# Altium integrated library ON Semi Schottky Diodes & Schottky Rectifiers.IntLib: 755 symbols (part 14 of 17)
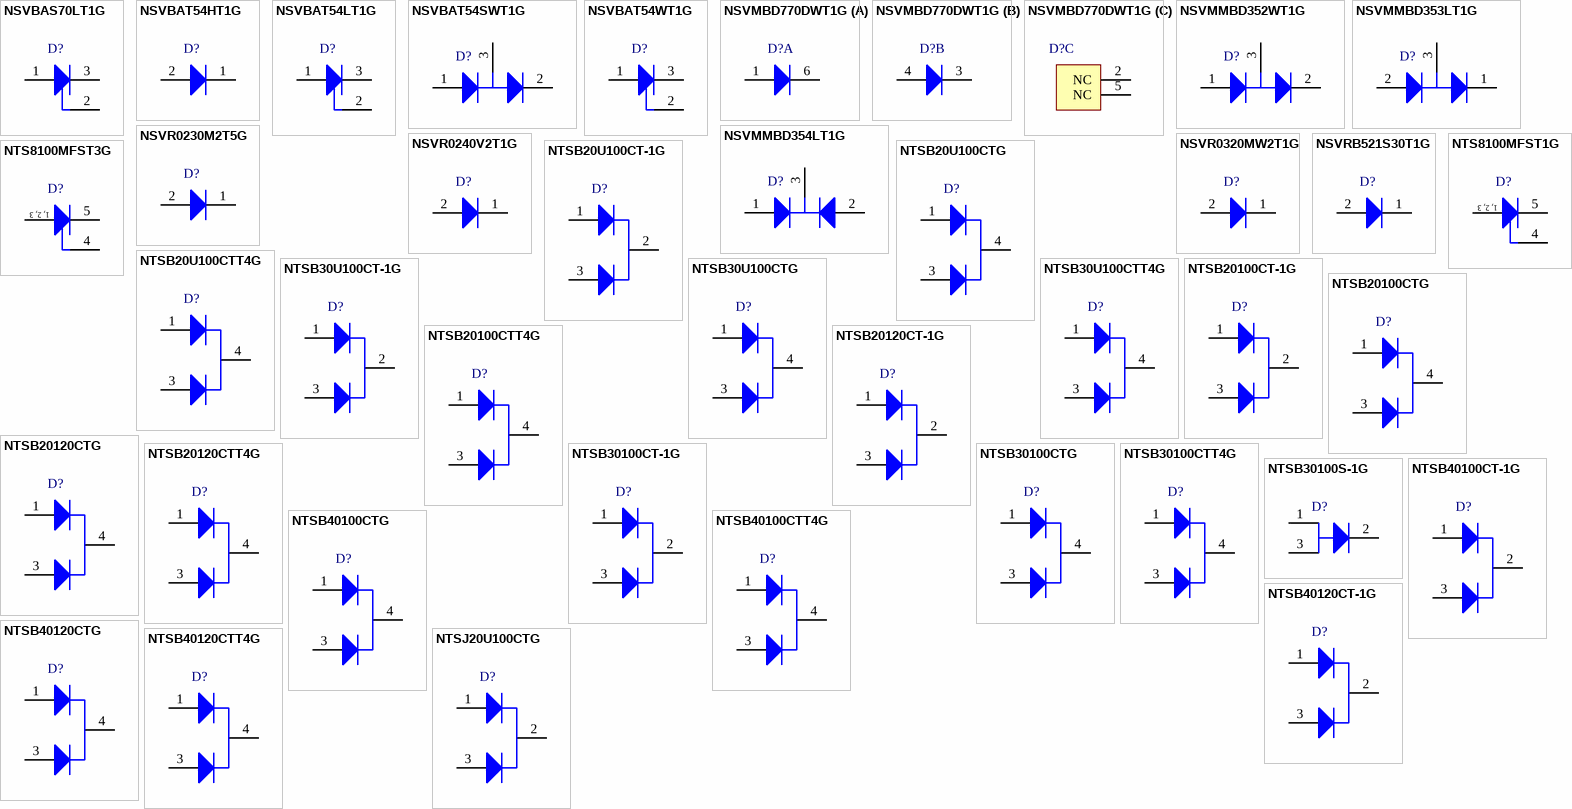
[diagram p32: symbols NSVBAS70LT1G to NTSJ20U100CTG]

## NTSB30U100CTG
designator D?
Very Low Forward Voltage Trench-Based Schottky Rectifier, Exceptionally Low VF=0.42 V at IF=5 A, 3-Pin D2PAK, Pb-Free, Tube; Manufacturer: On Semiconductor; PartNumber: NTSB30U100CTG; Note: 0; Configuration: Common Cathode; IFSM Max (A): 160; DatasheetVersion: Rev. 7; PackageVersion: Rev. K, 09/2008; PackageReference: D2PAK-3-418B-04; PackageDescription: 3-Pin Flange Mount, Body 9.145 x 9.97 mm, Pitch 2.54 mm; Packing: Tube; RoHS: TRUE; Mounting Technology: Surface Mount; ComponentLink1Description: Manufacturer URL; ComponentLink1URL: http://www.onsemi.com/; ComponentLink2Description: Datasheet; ComponentLink2URL: http://www.onsemi.cn/pub_link/Collateral/NTST30U100CT-D.PDF; ComponentLink3Description: Package Specification; ComponentLink3URL: http://www.onsemi.com/pub_link/Collateral/418B-04.PDF
footprint ONSC-D2PAK-3-418B-04_V (DPAK, 3-Leads, Body 9.97x9.145mm, Pitch 2.54mm)
pins: 1 A1, 3 A2, 4 K

## NTSB30U100CTT4G
designator D?
Very Low Forward Voltage Trench-Based Schottky Rectifier, Exceptionally Low VF=0.42 V at IF=5 A, 3-Pin D2PAK, Pb-Free, Tape and Reel; Manufacturer: On Semiconductor; PartNumber: NTSB30U100CTT4G; Note: 0; Configuration: Common Cathode; IFSM Max (A): 160; DatasheetVersion: Rev. 7; PackageVersion: Rev. K, 09/2008; PackageReference: D2PAK-3-418B-04; PackageDescription: 3-Pin Flange Mount, Body 9.145 x 9.97 mm, Pitch 2.54 mm; Packing: Tape and Reel; RoHS: TRUE; Mounting Technology: Surface Mount; ComponentLink1Description: Manufacturer URL; ComponentLink1URL: http://www.onsemi.com/; ComponentLink2Description: Datasheet; ComponentLink2URL: http://www.onsemi.cn/pub_link/Collateral/NTST30U100CT-D.PDF; ComponentLink3Description: Package Specification; ComponentLink3URL: http://www.onsemi.com/pub_link/Collateral/418B-04.PDF
footprint ONSC-D2PAK-3-418B-04_V (DPAK, 3-Leads, Body 9.97x9.145mm, Pitch 2.54mm)
pins: 1 A1, 3 A2, 4 K

## NTSB20100CT-1G
designator D?
Very Low Forward Voltage Trench-Based Schottky Rectifier, Exceptionally Low VF=0.5 V at IF=5 A, 3-Pin I2PAK, Pb-Free, Tube; Manufacturer: On Semiconductor; PartNumber: NTSB20100CT-1G; Configuration: Common Cathode; IFSM Max (A): 150; DatasheetVersion: Rev. 5; PackageVersion: Rev. D, 10/2007; PackageReference: I2PAK-3-418D-01; PackageDescription: 3-Pin Flange Mount, Vertical Straight Lead, Body 9.98 x 4.38 mm, Pitch 2.54 mm; Supplier 1: Digi-Key; Supplier Part Number 1: NTSB20100CT-1G-ND; Supplier 2: Newark; Supplier Part Number 2: 65T1512; Supplier 3: Mouser; Supplier Part Number 3: 863-NTSB20100CT-1G; Packing: Tube; RoHS: TRUE; Mounting Technology: Through Hole; ComponentLink1Description: Manufacturer URL; ComponentLink1URL: http://www.onsemi.com/; ComponentLink2Description: Datasheet; ComponentLink2URL: http://www.onsemi.cn/pub_link/Collateral/NTST20100CT-D.PDF; ComponentLink3Description: Package Specification; ComponentLink3URL: http://www.onsemi.com/pub_link/Collateral/418D.PDF
footprint ONSC-I2PAK-3-418D-01 (FM, 3-Leads, Body 10.35x4.7mm, Pitch 2.54mm)
pins: 1 A1, 2 K, 3 A2

## NTSB20100CTG
designator D?
Very Low Forward Voltage Trench-Based Schottky Rectifier, Exceptionally Low VF=0.5 V at IF=5 A, 3-Pin D2PAK, Pb-Free, Tube; Manufacturer: On Semiconductor; PartNumber: NTSB20100CTG; Configuration: Common Cathode; IFSM Max (A): 150; DatasheetVersion: Rev. 5; PackageVersion: Rev. K, 09/2008; PackageReference: D2PAK-3-418B-04; PackageDescription: 3-Pin Flange Mount, Body 9.145 x 9.97 mm, Pitch 2.54 mm; Supplier 1: Newark; Supplier Part Number 1: 28X8076; Packing: Tube; RoHS: TRUE; Mounting Technology: Surface Mount; ComponentLink1Description: Manufacturer URL; ComponentLink1URL: http://www.onsemi.com/; ComponentLink2Description: Datasheet; ComponentLink2URL: http://www.onsemi.cn/pub_link/Collateral/NTST20100CT-D.PDF; ComponentLink3Description: Package Specification; ComponentLink3URL: http://www.onsemi.com/pub_link/Collateral/418B-04.PDF
footprint ONSC-D2PAK-3-418B-04_V (DPAK, 3-Leads, Body 9.97x9.145mm, Pitch 2.54mm)
pins: 1 A1, 3 A2, 4 K

## NTSB20100CTT4G
designator D?
Very Low Forward Voltage Trench-Based Schottky Rectifier, Exceptionally Low VF=0.5 V at IF=5 A, 3-Pin D2PAK, Pb-Free, Tape and Reel; Manufacturer: On Semiconductor; PartNumber: NTSB20100CTT4G; Configuration: Common Cathode; IFSM Max (A): 150; DatasheetVersion: Rev. 5; PackageVersion: Rev. K, 09/2008; PackageReference: D2PAK-3-418B-04; PackageDescription: 3-Pin Flange Mount, Body 9.145 x 9.97 mm, Pitch 2.54 mm; Supplier 1: Newark; Supplier Part Number 1: 28X8077; Packing: Tape and Reel; RoHS: TRUE; Mounting Technology: Surface Mount; ComponentLink1Description: Manufacturer URL; ComponentLink1URL: http://www.onsemi.com/; ComponentLink2Description: Datasheet; ComponentLink2URL: http://www.onsemi.cn/pub_link/Collateral/NTST20100CT-D.PDF; ComponentLink3Description: Package Specification; ComponentLink3URL: http://www.onsemi.com/pub_link/Collateral/418B-04.PDF
footprint ONSC-D2PAK-3-418B-04_V (DPAK, 3-Leads, Body 9.97x9.145mm, Pitch 2.54mm)
pins: 1 A1, 3 A2, 4 K

## NTSB20120CT-1G
designator D?
Very Low Forward Voltage Trench-Based Schottky Rectifier, Exceptionally Low VF=0.54 V at IF=5 A, 3-Pin I2PAK, Pb-Free, Tube; Manufacturer: On Semiconductor; PartNumber: NTSB20120CT-1G; Configuration: Common Cathode; IFSM Max (A): 120; DatasheetVersion: Rev. 4; PackageVersion: Rev. D, 10/2007; PackageReference: I2PAK-3-418D-01; PackageDescription: 3-Pin Flange Mount, Vertical Straight Lead, Body 9.98 x 4.38 mm, Pitch 2.54 mm; Supplier 1: Digi-Key; Supplier Part Number 1: NTSB20120CT-1GOS-ND; Supplier 2: Farnell; Supplier Part Number 2: 2114679; Supplier 3: Newark; Supplier Part Number 3: 92T2183; Supplier 4: Mouser; Supplier Part Number 4: 863-NTSB20120CT-1G; Packing: Tube; RoHS: TRUE; Mounting Technology: Through Hole; ComponentLink1Description: Manufacturer URL; ComponentLink1URL: http://www.onsemi.com/; ComponentLink2Description: Datasheet; ComponentLink2URL: http://www.onsemi.cn/pub_link/Collateral/NTST20120CT-D.PDF; ComponentLink3Description: Package Specification; ComponentLink3URL: http://www.onsemi.com/pub_link/Collateral/418D.PDF
footprint ONSC-I2PAK-3-418D-01 (FM, 3-Leads, Body 10.35x4.7mm, Pitch 2.54mm)
pins: 1 A1, 2 K, 3 A2

## NTSB20120CTG
designator D?
Very Low Forward Voltage Trench-Based Schottky Rectifier, Exceptionally Low VF=0.54 V at IF=5 A, 3-Pin D2PAK, Pb-Free, Tube; Manufacturer: On Semiconductor; PartNumber: NTSB20120CTG; Note: 0; Configuration: Common Cathode; IFSM Max (A): 120; DatasheetVersion: Rev. 4; PackageVersion: Rev. K, 09/2008; PackageReference: D2PAK-3-418B-04; PackageDescription: 3-Pin Flange Mount, Body 9.145 x 9.97 mm, Pitch 2.54 mm; Packing: Tube; RoHS: TRUE; Mounting Technology: Surface Mount; ComponentLink1Description: Manufacturer URL; ComponentLink1URL: http://www.onsemi.com/; ComponentLink2Description: Datasheet; ComponentLink2URL: http://www.onsemi.cn/pub_link/Collateral/NTST20120CT-D.PDF; ComponentLink3Description: Package Specification; ComponentLink3URL: http://www.onsemi.com/pub_link/Collateral/418B-04.PDF
footprint ONSC-D2PAK-3-418B-04_V (DPAK, 3-Leads, Body 9.97x9.145mm, Pitch 2.54mm)
pins: 1 A1, 3 A2, 4 K

## NTSB20120CTT4G
designator D?
Very Low Forward Voltage Trench-Based Schottky Rectifier, Exceptionally Low VF=0.54 V at IF=5 A, 3-Pin D2PAK, Pb-Free, Tape and Reel; Manufacturer: On Semiconductor; PartNumber: NTSB20120CTT4G; Configuration: Common Cathode; IFSM Max (A): 120; DatasheetVersion: Rev. 4; PackageVersion: Rev. K, 09/2008; PackageReference: D2PAK-3-418B-04; PackageDescription: 3-Pin Flange Mount, Body 9.145 x 9.97 mm, Pitch 2.54 mm; Supplier 1: Mouser; Supplier Part Number 1: 863-NTSB20120CTT4G; Packing: Tape and Reel; RoHS: TRUE; Mounting Technology: Surface Mount; ComponentLink1Description: Manufacturer URL; ComponentLink1URL: http://www.onsemi.com/; ComponentLink2Description: Datasheet; ComponentLink2URL: http://www.onsemi.cn/pub_link/Collateral/NTST20120CT-D.PDF; ComponentLink3Description: Package Specification; ComponentLink3URL: http://www.onsemi.com/pub_link/Collateral/418B-04.PDF
footprint ONSC-D2PAK-3-418B-04_V (DPAK, 3-Leads, Body 9.97x9.145mm, Pitch 2.54mm)
pins: 1 A1, 3 A2, 4 K

## NTSB30100CT-1G
designator D?
Very Low Forward Voltage Trench-Based Schottky Rectifier, Exceptionally Low VF=0.455 V at IF=5 A, 3-Pin I2PAK, Pb-Free, Tube; Manufacturer: On Semiconductor; PartNumber: NTSB30100CT-1G; Configuration: Common Cathode; IFSM Max (A): 160; DatasheetVersion: Rev. 5; PackageVersion: Rev. D, 10/2007; PackageReference: I2PAK-3-418D-01; PackageDescription: 3-Pin Flange Mount, Vertical Straight Lead, Body 9.98 x 4.38 mm, Pitch 2.54 mm; Supplier 1: Digi-Key; Supplier Part Number 1: NTSB30100CT-1G-ND; Supplier 2: Newark; Supplier Part Number 2: 65T1513; Supplier 3: Mouser; Supplier Part Number 3: 863-NTSB30100CT-1G; Packing: Tube; RoHS: TRUE; Mounting Technology: Through Hole; ComponentLink1Description: Manufacturer URL; ComponentLink1URL: http://www.onsemi.com/; ComponentLink2Description: Datasheet; ComponentLink2URL: http://www.onsemi.cn/pub_link/Collateral/NTST30100CT-D.PDF; ComponentLink3Description: Package Specification; ComponentLink3URL: http://www.onsemi.com/pub_link/Collateral/418D.PDF
footprint ONSC-I2PAK-3-418D-01 (FM, 3-Leads, Body 10.35x4.7mm, Pitch 2.54mm)
pins: 1 A1, 2 K, 3 A2

## NTSB30100CTG
designator D?
Very Low Forward Voltage Trench-Based Schottky Rectifier, Exceptionally Low VF=0.455 V at IF=5 A, 3-Pin D2PAK, Pb-Free, Tube; Manufacturer: On Semiconductor; PartNumber: NTSB30100CTG; Configuration: Common Cathode; IFSM Max (A): 160; DatasheetVersion: Rev. 5; PackageVersion: Rev. K, 09/2008; PackageReference: D2PAK-3-418B-04; PackageDescription: 3-Pin Flange Mount, Body 9.145 x 9.97 mm, Pitch 2.54 mm; Supplier 1: Digi-Key; Supplier Part Number 1: NTSB30100CTGOS-ND; Supplier 2: Farnell; Supplier Part Number 2: 2114678; Supplier 3: Newark; Supplier Part Number 3: 92T2185; Supplier 4: Mouser; Supplier Part Number 4: 863-NTSB30100CTG; Packing: Tube; RoHS: TRUE; Mounting Technology: Surface Mount; ComponentLink1Description: Manufacturer URL; ComponentLink1URL: http://www.onsemi.com/; ComponentLink2Description: Datasheet; ComponentLink2URL: http://www.onsemi.cn/pub_link/Collateral/NTST30100CT-D.PDF; ComponentLink3Description: Package Specification; ComponentLink3URL: http://www.onsemi.com/pub_link/Collateral/418B-04.PDF
footprint ONSC-D2PAK-3-418B-04_V (DPAK, 3-Leads, Body 9.97x9.145mm, Pitch 2.54mm)
pins: 1 A1, 3 A2, 4 K

## NTSB30100CTT4G
designator D?
Very Low Forward Voltage Trench-Based Schottky Rectifier, Exceptionally Low VF=0.455 V at IF=5 A, 3-Pin D2PAK, Pb-Free, Tape and Reel; Manufacturer: On Semiconductor; PartNumber: NTSB30100CTT4G; Configuration: Common Cathode; IFSM Max (A): 160; DatasheetVersion: Rev. 5; PackageVersion: Rev. K, 09/2008; PackageReference: D2PAK-3-418B-04; PackageDescription: 3-Pin Flange Mount, Body 9.145 x 9.97 mm, Pitch 2.54 mm; Supplier 1: Digi-Key; Supplier Part Number 1: NTSB30100CTT4GOSTR-ND; Supplier 2: Digi-Key; Supplier Part Number 2: NTSB30100CTT4GOSCT-ND; Supplier 3: Digi-Key; Supplier Part Number 3: NTSB30100CTT4GOSDKR-ND; Supplier 4: Farnell; Supplier Part Number 4: 2317405; Supplier 5: Newark; Supplier Part Number 5: 92T2186; Supplier 6: Mouser; Supplier Part Number 6: 863-NTSB30100CTT4G; Packing: Tape and Reel; RoHS: TRUE; Mounting Technology: Surface Mount; ComponentLink1Description: Manufacturer URL; ComponentLink1URL: http://www.onsemi.com/; ComponentLink2Description: Datasheet; ComponentLink2URL: http://www.onsemi.cn/pub_link/Collateral/NTST30100CT-D.PDF; ComponentLink3Description: Package Specification; ComponentLink3URL: http://www.onsemi.com/pub_link/Collateral/418B-04.PDF
footprint ONSC-D2PAK-3-418B-04_V (DPAK, 3-Leads, Body 9.97x9.145mm, Pitch 2.54mm)
pins: 1 A1, 3 A2, 4 K

## NTSB30100S-1G
designator D?
Very Low Forward Voltage Trench-Based Schottky Rectifier, Exceptionally Low VF=0.39 V at IF=5 A, 3-Pin I2PAK, Pb-Free, Tube; Manufacturer: On Semiconductor; PartNumber: NTSB30100S-1G; Configuration: Single; IFSM Max (A): 250; DatasheetVersion: Rev. 3; PackageVersion: Rev. D, 10/2007; PackageReference: I2PAK-3-418D-01; PackageDescription: 3-Pin Flange Mount, Vertical Straight Lead, Body 9.98 x 4.38 mm, Pitch 2.54 mm; Supplier 1: Digi-Key; Supplier Part Number 1: NTSB30100S-1G-ND; Supplier 2: Newark; Supplier Part Number 2: 24T3497; Supplier 3: Mouser; Supplier Part Number 3: 863-NTSB30100S-1G; Packing: Tube; RoHS: TRUE; Mounting Technology: Through Hole; ComponentLink1Description: Manufacturer URL; ComponentLink1URL: http://www.onsemi.com/; ComponentLink2Description: Datasheet; ComponentLink2URL: http://www.onsemi.cn/pub_link/Collateral/NTST30100S-D.PDF; ComponentLink3Description: Package Specification; ComponentLink3URL: http://www.onsemi.com/pub_link/Collateral/418D.PDF
footprint ONSC-I2PAK-3-418D-01 (FM, 3-Leads, Body 10.35x4.7mm, Pitch 2.54mm)
pins: 1 A, 2 K, 3 A

## NTSB40100CT-1G
designator D?
Very Low Forward Voltage Trench-Based Schottky Rectifier, Exceptionally Low VF=0.38 V at IF=5 A, 3-Pin I2PAK, Pb-Free, Tube; Manufacturer: On Semiconductor; PartNumber: NTSB40100CT-1G; Configuration: Dual Common Cathode; IFSM Max (A): 250; DatasheetVersion: Rev. 0; PackageVersion: Rev. D, 10/2007; PackageReference: I2PAK-3-418D-01; PackageDescription: 3-Pin Flange Mount, Vertical Straight Lead, Body 9.98 x 4.38 mm, Pitch 2.54 mm; Supplier 1: Newark; Supplier Part Number 1: 97W6392; Supplier 2: Mouser; Supplier Part Number 2: 863-NTSB40100CT-1G; Packing: Tube; RoHS: TRUE; Mounting Technology: Through Hole; ComponentLink1Description: Manufacturer URL; ComponentLink1URL: http://www.onsemi.com/; ComponentLink2Description: Datasheet; ComponentLink2URL: http://www.onsemi.cn/pub_link/Collateral/NTST40100CT-D.PDF; ComponentLink3Description: Package Specification; ComponentLink3URL: http://www.onsemi.com/pub_link/Collateral/418D.PDF
footprint ONSC-I2PAK-3-418D-01 (FM, 3-Leads, Body 10.35x4.7mm, Pitch 2.54mm)
pins: 1 A1, 2 K, 3 A2

## NTSB40100CTG
designator D?
Very Low Forward Voltage Trench-Based Schottky Rectifier, Exceptionally Low VF=0.38 V at IF=5 A, 3-Pin D2PAK, Pb-Free, Tube; Manufacturer: On Semiconductor; PartNumber: NTSB40100CTG; Configuration: Dual Common Cathode; IFSM Max (A): 250; DatasheetVersion: Rev. 0; PackageVersion: Rev. K, 09/2008; PackageReference: D2PAK-3-418B-04; PackageDescription: 3-Pin Flange Mount, Body 9.145 x 9.97 mm, Pitch 2.54 mm; Supplier 1: Newark; Supplier Part Number 1: 97W6393; Supplier 2: Mouser; Supplier Part Number 2: 863-NTSB40100CTG; Packing: Tube; RoHS: TRUE; Mounting Technology: Surface Mount; ComponentLink1Description: Manufacturer URL; ComponentLink1URL: http://www.onsemi.com/; ComponentLink2Description: Datasheet; ComponentLink2URL: http://www.onsemi.cn/pub_link/Collateral/NTST40100CT-D.PDF; ComponentLink3Description: Package Specification; ComponentLink3URL: http://www.onsemi.com/pub_link/Collateral/418B-04.PDF
footprint ONSC-D2PAK-3-418B-04_V (DPAK, 3-Leads, Body 9.97x9.145mm, Pitch 2.54mm)
pins: 1 A1, 3 A2, 4 K

## NTSB40100CTT4G
designator D?
Very Low Forward Voltage Trench-Based Schottky Rectifier, Exceptionally Low VF=0.38 V at IF=5 A, 3-Pin D2PAK, Pb-Free, Tape and Reel; Manufacturer: On Semiconductor; PartNumber: NTSB40100CTT4G; Configuration: Dual Common Cathode; IFSM Max (A): 250; DatasheetVersion: Rev. 0; PackageVersion: Rev. K, 09/2008; PackageReference: D2PAK-3-418B-04; PackageDescription: 3-Pin Flange Mount, Body 9.145 x 9.97 mm, Pitch 2.54 mm; Supplier 1: Newark; Supplier Part Number 1: 97W6394; Supplier 2: Mouser; Supplier Part Number 2: 863-NTSB40100CTT4G; Packing: Tape and Reel; RoHS: TRUE; Mounting Technology: Surface Mount; ComponentLink1Description: Manufacturer URL; ComponentLink1URL: http://www.onsemi.com/; ComponentLink2Description: Datasheet; ComponentLink2URL: http://www.onsemi.cn/pub_link/Collateral/NTST40100CT-D.PDF; ComponentLink3Description: Package Specification; ComponentLink3URL: http://www.onsemi.com/pub_link/Collateral/418B-04.PDF
footprint ONSC-D2PAK-3-418B-04_V (DPAK, 3-Leads, Body 9.97x9.145mm, Pitch 2.54mm)
pins: 1 A1, 3 A2, 4 K

## NTSB40120CT-1G
designator D?
Very Low Forward Voltage Trench-Based Schottky Rectifier, Exceptionally Low VF=0.43 V at IF=5 A, 3-Pin I2PAK, Pb-Free, Tube; Manufacturer: On Semiconductor; PartNumber: NTSB40120CT-1G; Configuration: Common Cathode; IFSM Max (A): 250; DatasheetVersion: Rev. 4; PackageVersion: Rev. D, 10/2007; PackageReference: I2PAK-3-418D-01; PackageDescription: 3-Pin Flange Mount, Vertical Straight Lead, Body 9.98 x 4.38 mm, Pitch 2.54 mm; Supplier 1: Digi-Key; Supplier Part Number 1: NTSB40120CT-1GOS-ND; Supplier 2: Farnell; Supplier Part Number 2: 2114681; Supplier 3: Newark; Supplier Part Number 3: 05W5650; Supplier 4: Newark; Supplier Part Number 4: 92T2190; Supplier 5: Mouser; Supplier Part Number 5: 863-NTSB40120CT-1G; Packing: Tube; RoHS: TRUE; Mounting Technology: Through Hole; ComponentLink1Description: Manufacturer URL; ComponentLink1URL: http://www.onsemi.com/; ComponentLink2Description: Datasheet; ComponentLink2URL: http://www.onsemi.cn/pub_link/Collateral/NTST40120CT-D.PDF; ComponentLink3Description: Package Specification; ComponentLink3URL: http://www.onsemi.com/pub_link/Collateral/418D.PDF
footprint ONSC-I2PAK-3-418D-01 (FM, 3-Leads, Body 10.35x4.7mm, Pitch 2.54mm)
pins: 1 A1, 2 K, 3 A2

## NTSB40120CTG
designator D?
Very Low Forward Voltage Trench-Based Schottky Rectifier, Exceptionally Low VF=0.43 V at IF=5 A, 3-Pin D2PAK, Pb-Free, Tube; Manufacturer: On Semiconductor; PartNumber: NTSB40120CTG; Note: 0; Configuration: Common Cathode; IFSM Max (A): 250; DatasheetVersion: Rev. 4; PackageVersion: Rev. K, 09/2008; PackageReference: D2PAK-3-418B-04; PackageDescription: 3-Pin Flange Mount, Body 9.145 x 9.97 mm, Pitch 2.54 mm; Packing: Tube; RoHS: TRUE; Mounting Technology: Surface Mount; ComponentLink1Description: Manufacturer URL; ComponentLink1URL: http://www.onsemi.com/; ComponentLink2Description: Datasheet; ComponentLink2URL: http://www.onsemi.cn/pub_link/Collateral/NTST40120CT-D.PDF; ComponentLink3Description: Package Specification; ComponentLink3URL: http://www.onsemi.com/pub_link/Collateral/418B-04.PDF
footprint ONSC-D2PAK-3-418B-04_V (DPAK, 3-Leads, Body 9.97x9.145mm, Pitch 2.54mm)
pins: 1 A1, 3 A2, 4 K

## NTSB40120CTT4G
designator D?
Very Low Forward Voltage Trench-Based Schottky Rectifier, Exceptionally Low VF=0.43 V at IF=5 A, 3-Pin D2PAK, Pb-Free, Tape and Reel; Manufacturer: On Semiconductor; PartNumber: NTSB40120CTT4G; Note: 0; Configuration: Common Cathode; IFSM Max (A): 250; DatasheetVersion: Rev. 4; PackageVersion: Rev. K, 09/2008; PackageReference: D2PAK-3-418B-04; PackageDescription: 3-Pin Flange Mount, Body 9.145 x 9.97 mm, Pitch 2.54 mm; Packing: Tape and Reel; RoHS: TRUE; Mounting Technology: Surface Mount; ComponentLink1Description: Manufacturer URL; ComponentLink1URL: http://www.onsemi.com/; ComponentLink2Description: Datasheet; ComponentLink2URL: http://www.onsemi.cn/pub_link/Collateral/NTST40120CT-D.PDF; ComponentLink3Description: Package Specification; ComponentLink3URL: http://www.onsemi.com/pub_link/Collateral/418B-04.PDF
footprint ONSC-D2PAK-3-418B-04_V (DPAK, 3-Leads, Body 9.97x9.145mm, Pitch 2.54mm)
pins: 1 A1, 3 A2, 4 K

## NTSJ20U100CTG
designator D?
Very Low Forward Voltage Trench-Based Schottky Rectifier, Exceptionally Low VF=0.5 V at IF=5 A, 3-Pin TO-220, Pb-Free, Tube; Manufacturer: On Semiconductor; PartNumber: NTSJ20U100CTG; Configuration: Common Cathode; IFSM Max (A): 150; DatasheetVersion: Rev. 5; PackageVersion: Rev. B, 09/2011; PackageReference: TO-220-3-221AH_B; PackageDescription: 3-Pin Flange Mount, Vertical Straight Lead, Body 10 x 4.5 mm, Pitch 2.54 mm; Supplier 1: Digi-Key; Supplier Part Number 1: NTSJ20U100CTGOS-ND; Supplier 2: Farnell; Supplier Part Number 2: 2114695; Supplier 3: Newark; Supplier Part Number 3: 05W5651; Supplier 4: Mouser; Supplier Part Number 4: 863-NTSJ20U100CTG; Packing: Tube; RoHS: TRUE; Mounting Technology: Through Hole; ComponentLink1Description: Manufacturer URL; ComponentLink1URL: http://www.onsemi.com/; ComponentLink2Description: Datasheet; ComponentLink2URL: http://www.onsemi.cn/pub_link/Collateral/NTST20U100CT-D.PDF; ComponentLink3Description: Package Specification; ComponentLink3URL: http://www.onsemi.cn/pub_link/Collateral/NTSJ2080CT-D.PDF
footprint ONSC-TO-220-3-221AH_B (FM, 3-Leads, Body 10.3x4.7mm, Pitch 2.54 mm)
pins: 1 A1, 2 K, 3 A2

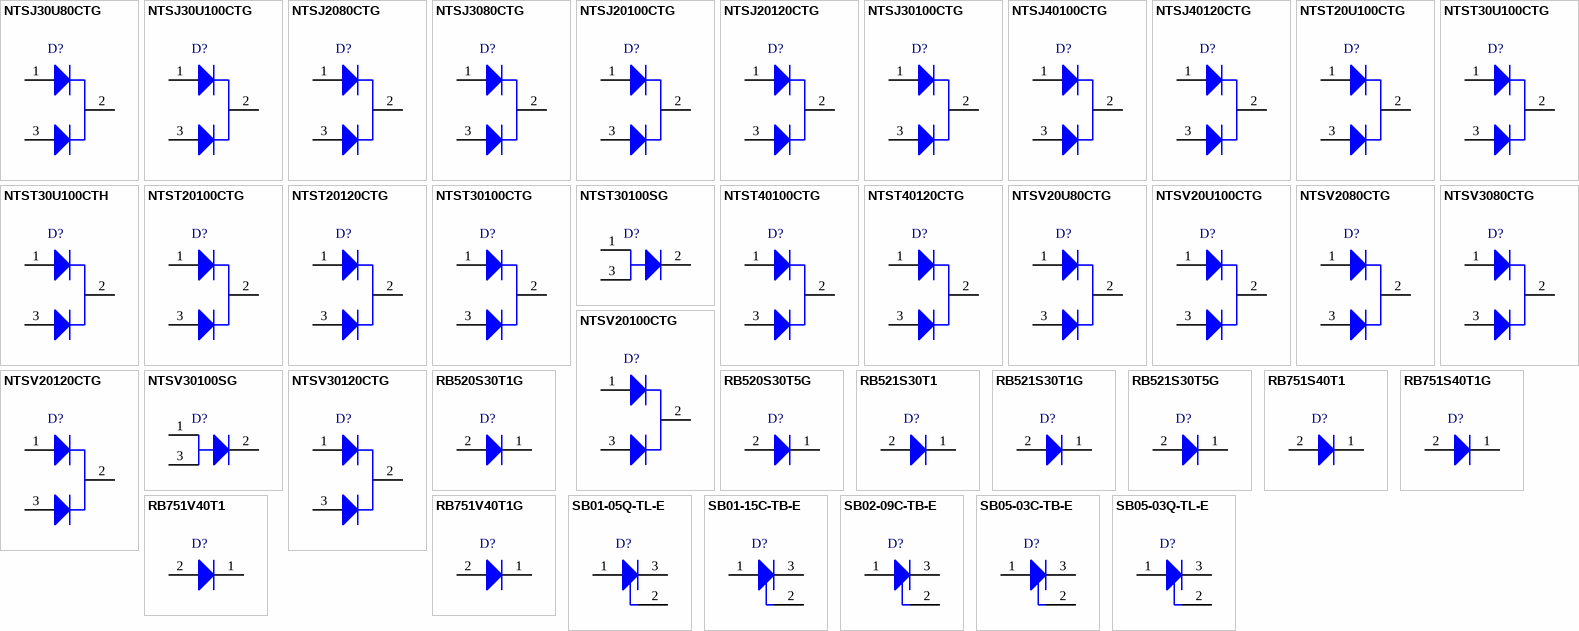
[diagram p16: symbols NTSJ30U80CTG to SB05-03Q-TL-E]

## NTSJ30U80CTG
designator D?
Very Low Forward Voltage Trench-Based Schottky Rectifier, Exceptionally Low VF=0.42 V at IF=5 A, 3-Pin TO-220, Pb-Free, Tube; Manufacturer: On Semiconductor; PartNumber: NTSJ30U80CTG; Configuration: Common Cathode; IFSM Max (A): 160; DatasheetVersion: Rev. 0; PackageVersion: Rev. B, 09/2011; PackageReference: TO-220-3-221AH_B; PackageDescription: 3-Pin Flange Mount, Vertical Straight Lead, Body 10 x 4.5 mm, Pitch 2.54 mm; Supplier 1: Digi-Key; Supplier Part Number 1: NTSJ30U80CTGOS-ND; Supplier 2: Farnell; Supplier Part Number 2: 2114683; Supplier 3: Newark; Supplier Part Number 3: 05W5655; Supplier 4: Mouser; Supplier Part Number 4: 863-NTSJ30U80CTG; Packing: Tube; RoHS: TRUE; Mounting Technology: Through Hole; ComponentLink1Description: Manufacturer URL; ComponentLink1URL: http://www.onsemi.com/; ComponentLink2Description: Datasheet; ComponentLink2URL: http://www.onsemi.cn/pub_link/Collateral/NTSJ30U80CT-D.PDF; ComponentLink3Description: Package Specification; ComponentLink3URL: http://www.onsemi.cn/pub_link/Collateral/NTSJ2080CT-D.PDF
footprint ONSC-TO-220-3-221AH_B (FM, 3-Leads, Body 10.3x4.7mm, Pitch 2.54 mm)
pins: 1 A1, 2 K, 3 A2

## NTSJ30U100CTG
designator D?
Very Low Forward Voltage Trench-Based Schottky Rectifier, Exceptionally Low VF=0.42 V at IF=5 A, 3-Pin TO-220, Pb-Free, Tube; Manufacturer: On Semiconductor; PartNumber: NTSJ30U100CTG; Configuration: Common Cathode; IFSM Max (A): 160; DatasheetVersion: Rev. 7; PackageVersion: Rev. B, 09/2011; PackageReference: TO-220-3-221AH_B; PackageDescription: 3-Pin Flange Mount, Vertical Straight Lead, Body 10 x 4.5 mm, Pitch 2.54 mm; Supplier 1: Digi-Key; Supplier Part Number 1: NTSJ30U100CTGOS-ND; Supplier 2: Farnell; Supplier Part Number 2: 2114682; Supplier 3: Newark; Supplier Part Number 3: 05W5654; Supplier 4: Mouser; Supplier Part Number 4: 863-NTSJ30U100CTG; Packing: Tube; RoHS: TRUE; Mounting Technology: Through Hole; ComponentLink1Description: Manufacturer URL; ComponentLink1URL: http://www.onsemi.com/; ComponentLink2Description: Datasheet; ComponentLink2URL: http://www.onsemi.cn/pub_link/Collateral/NTST30U100CT-D.PDF; ComponentLink3Description: Package Specification; ComponentLink3URL: http://www.onsemi.cn/pub_link/Collateral/NTSJ2080CT-D.PDF
footprint ONSC-TO-220-3-221AH_B (FM, 3-Leads, Body 10.3x4.7mm, Pitch 2.54 mm)
pins: 1 A1, 2 K, 3 A2

## NTSJ2080CTG
designator D?
Very Low Forward Voltage Trench-Based Schottky Rectifier, Exceptionally Low VF=0.50 V at IF=5 A, 3-Pin TO-220, Pb-Free, Tube; Manufacturer: On Semiconductor; PartNumber: NTSJ2080CTG; Configuration: Common Cathode; IFSM Max (A): 150; DatasheetVersion: Rev. B; PackageVersion: Rev. B, 09/2011; PackageReference: TO-220-3-221AH_B; PackageDescription: 3-Pin Flange Mount, Vertical Straight Lead, Body 10 x 4.5 mm, Pitch 2.54 mm; Supplier 1: Digi-Key; Supplier Part Number 1: NTSJ2080CTG-ND; Supplier 2: Mouser; Supplier Part Number 2: 863-NTSJ2080CTG; Packing: Tube; RoHS: TRUE; Mounting Technology: Through Hole; ComponentLink1Description: Manufacturer URL; ComponentLink1URL: http://www.onsemi.com/; ComponentLink2Description: Datasheet; ComponentLink2URL: http://www.onsemi.cn/pub_link/Collateral/NTSJ2080CT-D.PDF; ComponentLink3Description: Package Specification; ComponentLink3URL: http://www.onsemi.cn/pub_link/Collateral/NTSJ2080CT-D.PDF
footprint ONSC-TO-220-3-221AH_B (FM, 3-Leads, Body 10.3x4.7mm, Pitch 2.54 mm)
pins: 1 A1, 2 K, 3 A2

## NTSJ3080CTG
designator D?
Very Low Forward Voltage Trench-Based Schottky Rectifier, Exceptionally Low VF=0.455 V at IF=5 A, 3-Pin TO-220, Pb-Free, Tube; Manufacturer: On Semiconductor; PartNumber: NTSJ3080CTG; Configuration: Common Cathode; IFSM Max (A): 160; DatasheetVersion: Rev. 0; PackageVersion: Rev. B, 09/2011; PackageReference: TO-220-3-221AH_B; PackageDescription: 3-Pin Flange Mount, Vertical Straight Lead, Body 10 x 4.5 mm, Pitch 2.54 mm; Supplier 1: Digi-Key; Supplier Part Number 1: NTSJ3080CTGOS-ND; Supplier 2: Farnell; Supplier Part Number 2: 2114692; Supplier 3: Newark; Supplier Part Number 3: 05W5658; Supplier 4: Mouser; Supplier Part Number 4: 863-NTSJ3080CTG; Packing: Tube; RoHS: TRUE; Mounting Technology: Through Hole; ComponentLink1Description: Manufacturer URL; ComponentLink1URL: http://www.onsemi.com/; ComponentLink2Description: Datasheet; ComponentLink2URL: http://www.onsemi.cn/pub_link/Collateral/NTSJ3080CT-D.PDF; ComponentLink3Description: Package Specification; ComponentLink3URL: http://www.onsemi.cn/pub_link/Collateral/NTSJ2080CT-D.PDF
footprint ONSC-TO-220-3-221AH_B (FM, 3-Leads, Body 10.3x4.7mm, Pitch 2.54 mm)
pins: 1 A1, 2 K, 3 A2

## NTSJ20100CTG
designator D?
Very Low Forward Voltage Trench-Based Schottky Rectifier, Exceptionally Low VF=0.5 V at IF=5 A, 3-Pin TO-220, Pb-Free, Tube; Manufacturer: On Semiconductor; PartNumber: NTSJ20100CTG; Configuration: Common Cathode; IFSM Max (A): 150; DatasheetVersion: Rev. 5; PackageVersion: Rev. B, 09/2011; PackageReference: TO-220-3-221AH_B; PackageDescription: 3-Pin Flange Mount, Vertical Straight Lead, Body 10 x 4.5 mm, Pitch 2.54 mm; Supplier 1: Digi-Key; Supplier Part Number 1: NTSJ20100CTGOS-ND; Supplier 2: Farnell; Supplier Part Number 2: 2114693; Supplier 3: Newark; Supplier Part Number 3: 05W5652; Supplier 4: Newark; Supplier Part Number 4: 92T2192; Supplier 5: Mouser; Supplier Part Number 5: 863-NTSJ20100CTG; Packing: Tube; RoHS: TRUE; Mounting Technology: Through Hole; ComponentLink1Description: Manufacturer URL; ComponentLink1URL: http://www.onsemi.com/; ComponentLink2Description: Datasheet; ComponentLink2URL: http://www.onsemi.cn/pub_link/Collateral/NTST20100CT-D.PDF; ComponentLink3Description: Package Specification; ComponentLink3URL: http://www.onsemi.cn/pub_link/Collateral/NTSJ2080CT-D.PDF
footprint ONSC-TO-220-3-221AH_B (FM, 3-Leads, Body 10.3x4.7mm, Pitch 2.54 mm)
pins: 1 A1, 2 K, 3 A2

## NTSJ20120CTG
designator D?
Very Low Forward Voltage Trench-Based Schottky Rectifier, Exceptionally Low VF=0.54 V at IF=5 A, 3-Pin TO-220, Pb-Free, Tube; Manufacturer: On Semiconductor; PartNumber: NTSJ20120CTG; Configuration: Common Cathode; IFSM Max (A): 120; DatasheetVersion: Rev. 4; PackageVersion: Rev. B, 09/2011; PackageReference: TO-220-3-221AH_B; PackageDescription: 3-Pin Flange Mount, Vertical Straight Lead, Body 10 x 4.5 mm, Pitch 2.54 mm; Supplier 1: Digi-Key; Supplier Part Number 1: NTSJ20120CTGOS-ND; Supplier 2: Farnell; Supplier Part Number 2: 2114694; Supplier 3: Newark; Supplier Part Number 3: 05W5653; Supplier 4: Mouser; Supplier Part Number 4: 863-NTSJ20120CTG; Packing: Tube; RoHS: TRUE; Mounting Technology: Through Hole; ComponentLink1Description: Manufacturer URL; ComponentLink1URL: http://www.onsemi.com/; ComponentLink2Description: Datasheet; ComponentLink2URL: http://www.onsemi.cn/pub_link/Collateral/NTST20120CT-D.PDF; ComponentLink3Description: Package Specification; ComponentLink3URL: http://www.onsemi.cn/pub_link/Collateral/NTSJ2080CT-D.PDF
footprint ONSC-TO-220-3-221AH_B (FM, 3-Leads, Body 10.3x4.7mm, Pitch 2.54 mm)
pins: 1 A1, 2 K, 3 A2

## NTSJ30100CTG
designator D?
Very Low Forward Voltage Trench-Based Schottky Rectifier, Exceptionally Low VF=0.455 V at IF=5 A, 3-Pin TO-220, Pb-Free, Tube; Manufacturer: On Semiconductor; PartNumber: NTSJ30100CTG; Configuration: Common Cathode; IFSM Max (A): 160; DatasheetVersion: Rev. 5; PackageVersion: Rev. B, 09/2011; PackageReference: TO-220-3-221AH_B; PackageDescription: 3-Pin Flange Mount, Vertical Straight Lead, Body 10 x 4.5 mm, Pitch 2.54 mm; Supplier 1: Digi-Key; Supplier Part Number 1: NTSJ30100CTGOS-ND; Supplier 2: Farnell; Supplier Part Number 2: 2114697; Supplier 3: Newark; Supplier Part Number 3: 05W5656; Supplier 4: Mouser; Supplier Part Number 4: 863-NTSJ30100CTG; Packing: Tube; RoHS: TRUE; Mounting Technology: Through Hole; ComponentLink1Description: Manufacturer URL; ComponentLink1URL: http://www.onsemi.com/; ComponentLink2Description: Datasheet; ComponentLink2URL: http://www.onsemi.cn/pub_link/Collateral/NTST30100CT-D.PDF; ComponentLink3Description: Package Specification; ComponentLink3URL: http://www.onsemi.cn/pub_link/Collateral/NTSJ2080CT-D.PDF
footprint ONSC-TO-220-3-221AH_B (FM, 3-Leads, Body 10.3x4.7mm, Pitch 2.54 mm)
pins: 1 A1, 2 K, 3 A2

## NTSJ40100CTG
designator D?
Very Low Forward Voltage Trench-Based Schottky Rectifier, Exceptionally Low VF=0.38 V at IF=5 A, 3-Pin TO-220, Pb-Free, Tube; Manufacturer: On Semiconductor; PartNumber: NTSJ40100CTG; Configuration: Dual Common Cathode; IFSM Max (A): 250; DatasheetVersion: Rev. 0; PackageVersion: Rev. E, 04/2013; PackageReference: TO-220-3-221AH; PackageDescription: 3-Pin Flange Mount, Vertical Straight Lead, Body 10 x 4.5 mm, Pitch 2.54 mm; Supplier 1: Newark; Supplier Part Number 1: 97W6395; Supplier 2: Mouser; Supplier Part Number 2: 863-NTSJ40100CTG; Packing: Tube; RoHS: TRUE; Mounting Technology: Through Hole; ComponentLink1Description: Manufacturer URL; ComponentLink1URL: http://www.onsemi.com/; ComponentLink2Description: Datasheet; ComponentLink2URL: http://www.onsemi.cn/pub_link/Collateral/NTST40100CT-D.PDF; ComponentLink3Description: Package Specification; ComponentLink3URL: http://www.onsemi.com/pub_link/Collateral/221AH.PDF
footprint ONSC-TO-220-3-221AH (FM, 3-Leads, Body 10.3x4.7mm, Pitch 2.54mm)
pins: 1 A1, 2 K, 3 A2

## NTSJ40120CTG
designator D?
Very Low Forward Voltage Trench-Based Schottky Rectifier, Exceptionally Low VF=0.43 V at IF=5 A, 3-Pin TO-220, Pb-Free, Tube; Manufacturer: On Semiconductor; PartNumber: NTSJ40120CTG; Configuration: Common Cathode; IFSM Max (A): 250; DatasheetVersion: Rev. 4; PackageVersion: Rev. B, 09/2011; PackageReference: TO-220-3-221AH_B; PackageDescription: 3-Pin Flange Mount, Vertical Straight Lead, Body 10 x 4.5 mm, Pitch 2.54 mm; Supplier 1: Digi-Key; Supplier Part Number 1: NTSJ40120CTGOS-ND; Supplier 2: Farnell; Supplier Part Number 2: 2114698; Supplier 3: Newark; Supplier Part Number 3: 05W5659; Supplier 4: Mouser; Supplier Part Number 4: 863-NTSJ40120CTG; Packing: Tube; RoHS: TRUE; Mounting Technology: Through Hole; ComponentLink1Description: Manufacturer URL; ComponentLink1URL: http://www.onsemi.com/; ComponentLink2Description: Datasheet; ComponentLink2URL: http://www.onsemi.cn/pub_link/Collateral/NTST40120CT-D.PDF; ComponentLink3Description: Package Specification; ComponentLink3URL: http://www.onsemi.cn/pub_link/Collateral/NTSJ2080CT-D.PDF
footprint ONSC-TO-220-3-221AH_B (FM, 3-Leads, Body 10.3x4.7mm, Pitch 2.54 mm)
pins: 1 A1, 2 K, 3 A2

## NTST20U100CTG
designator D?
Very Low Forward Voltage Trench-Based Schottky Rectifier, Exceptionally Low VF=0.5 V at IF=5 A, 3-Pin TO-220, Pb-Free, Tube; Manufacturer: On Semiconductor; PartNumber: NTST20U100CTG; Configuration: Common Cathode; IFSM Max (A): 150; DatasheetVersion: Rev. 5; PackageVersion: Rev. AF; PackageReference: TO-220-3-221A-09_AF; PackageDescription: 3-Pin Flange Mount, Vertical Straight Lead, Body 9.97 x 4.445 mm, Pitch 2.54 mm; Supplier 1: Digi-Key; Supplier Part Number 1: NTST20U100CTG-ND; Supplier 2: Newark; Supplier Part Number 2: 76T6761; Supplier 3: Mouser; Supplier Part Number 3: 863-NTST20U100CTG; Packing: Tube; RoHS: TRUE; Mounting Technology: Through Hole; ComponentLink1Description: Manufacturer URL; ComponentLink1URL: http://www.onsemi.com/; ComponentLink2Description: Datasheet; ComponentLink2URL: http://www.onsemi.cn/pub_link/Collateral/NTST20U100CT-D.PDF; ComponentLink3Description: Package Specification; ComponentLink3URL: http://www.onsemi.cn/pub_link/Collateral/MCR8S-D.PDF
footprint ONSC-TO-220-3-221A-09_AF (FM, 3-Leads, Body 10.3x4.85mm, Pitch 2.54mm)
pins: 1 A1, 2 K, 3 A2

## NTST30U100CTG
designator D?
Very Low Forward Voltage Trench-Based Schottky Rectifier, Exceptionally Low VF=0.42 V at IF=5 A, 3-Pin TO-220, Pb-Free, Tube; Manufacturer: On Semiconductor; PartNumber: NTST30U100CTG; Configuration: Common Cathode; IFSM Max (A): 160; DatasheetVersion: Rev. 7; PackageVersion: Rev. AF; PackageReference: TO-220-3-221A-09_AF; PackageDescription: 3-Pin Flange Mount, Vertical Straight Lead, Body 9.97 x 4.445 mm, Pitch 2.54 mm; Supplier 1: Digi-Key; Supplier Part Number 1: NTST30U100CTG-ND; Supplier 2: Newark; Supplier Part Number 2: 65T1515; Supplier 3: Mouser; Supplier Part Number 3: 863-NTST30U100CTG; Packing: Tube; RoHS: TRUE; Mounting Technology: Through Hole; ComponentLink1Description: Manufacturer URL; ComponentLink1URL: http://www.onsemi.com/; ComponentLink2Description: Datasheet; ComponentLink2URL: http://www.onsemi.cn/pub_link/Collateral/NTST30U100CT-D.PDF; ComponentLink3Description: Package Specification; ComponentLink3URL: http://www.onsemi.cn/pub_link/Collateral/MCR8S-D.PDF
footprint ONSC-TO-220-3-221A-09_AF (FM, 3-Leads, Body 10.3x4.85mm, Pitch 2.54mm)
pins: 1 A1, 2 K, 3 A2

## NTST30U100CTH
designator D?
Very Low Forward Voltage Trench-Based Schottky Rectifier, Exceptionally Low VF=0.42 V at IF=5 A, 3-Pin TO-220, Pb-Free, Tube; Manufacturer: On Semiconductor; PartNumber: NTST30U100CTH; Note: 0; Configuration: Common Cathode; IFSM Max (A): 160; DatasheetVersion: Rev. 7; PackageVersion: Rev. AF; PackageReference: TO-220-3-221A-09_AF; PackageDescription: 3-Pin Flange Mount, Vertical Straight Lead, Body 9.97 x 4.445 mm, Pitch 2.54 mm; Packing: Tube; RoHS: TRUE; Mounting Technology: Through Hole; ComponentLink1Description: Manufacturer URL; ComponentLink1URL: http://www.onsemi.com/; ComponentLink2Description: Datasheet; ComponentLink2URL: http://www.onsemi.cn/pub_link/Collateral/NTST30U100CT-D.PDF; ComponentLink3Description: Package Specification; ComponentLink3URL: http://www.onsemi.cn/pub_link/Collateral/MCR8S-D.PDF
footprint ONSC-TO-220-3-221A-09_AF (FM, 3-Leads, Body 10.3x4.85mm, Pitch 2.54mm)
pins: 1 A1, 2 K, 3 A2

## NTST20100CTG
designator D?
Very Low Forward Voltage Trench-Based Schottky Rectifier, Exceptionally Low VF=0.5 V at IF=5 A, 3-Pin TO-220, Pb-Free, Tube; Manufacturer: On Semiconductor; PartNumber: NTST20100CTG; Configuration: Common Cathode; IFSM Max (A): 150; DatasheetVersion: Rev. 5; PackageVersion: Rev. AF; PackageReference: TO-220-3-221A-09_AF; PackageDescription: 3-Pin Flange Mount, Vertical Straight Lead, Body 9.97 x 4.445 mm, Pitch 2.54 mm; Supplier 1: Digi-Key; Supplier Part Number 1: NTST20100CTG-ND; Supplier 2: Newark; Supplier Part Number 2: 65T1514; Supplier 3: Mouser; Supplier Part Number 3: 863-NTST20100CTG; Packing: Tube; RoHS: TRUE; Mounting Technology: Through Hole; ComponentLink1Description: Manufacturer URL; ComponentLink1URL: http://www.onsemi.com/; ComponentLink2Description: Datasheet; ComponentLink2URL: http://www.onsemi.cn/pub_link/Collateral/NTST20100CT-D.PDF; ComponentLink3Description: Package Specification; ComponentLink3URL: http://www.onsemi.cn/pub_link/Collateral/MCR8S-D.PDF
footprint ONSC-TO-220-3-221A-09_AF (FM, 3-Leads, Body 10.3x4.85mm, Pitch 2.54mm)
pins: 1 A1, 2 K, 3 A2

## NTST20120CTG
designator D?
Very Low Forward Voltage Trench-Based Schottky Rectifier, Exceptionally Low VF=0.54 V at IF=5 A, 3-Pin TO-220, Pb-Free, Tube; Manufacturer: On Semiconductor; PartNumber: NTST20120CTG; Configuration: Common Cathode; IFSM Max (A): 120; DatasheetVersion: Rev. 4; PackageVersion: Rev. AF; PackageReference: TO-220-3-221A-09_AF; PackageDescription: 3-Pin Flange Mount, Vertical Straight Lead, Body 9.97 x 4.445 mm, Pitch 2.54 mm; Supplier 1: Digi-Key; Supplier Part Number 1: NTST20120CTGOS-ND; Supplier 2: Farnell; Supplier Part Number 2: 2114684; Supplier 3: Newark; Supplier Part Number 3: 05W5660; Supplier 4: Mouser; Supplier Part Number 4: 863-NTST20120CTG; Packing: Tube; RoHS: TRUE; Mounting Technology: Through Hole; ComponentLink1Description: Manufacturer URL; ComponentLink1URL: http://www.onsemi.com/; ComponentLink2Description: Datasheet; ComponentLink2URL: http://www.onsemi.cn/pub_link/Collateral/NTST20120CT-D.PDF; ComponentLink3Description: Package Specification; ComponentLink3URL: http://www.onsemi.cn/pub_link/Collateral/MCR8S-D.PDF
footprint ONSC-TO-220-3-221A-09_AF (FM, 3-Leads, Body 10.3x4.85mm, Pitch 2.54mm)
pins: 1 A1, 2 K, 3 A2

## NTST30100CTG
designator D?
Very Low Forward Voltage Trench-Based Schottky Rectifier, Exceptionally Low VF=0.455 V at IF=5 A, 3-Pin TO-220, Pb-Free, Tube; Manufacturer: On Semiconductor; PartNumber: NTST30100CTG; Configuration: Common Cathode; IFSM Max (A): 160; DatasheetVersion: Rev. 5; PackageVersion: Rev. AF; PackageReference: TO-220-3-221A-09_AF; PackageDescription: 3-Pin Flange Mount, Vertical Straight Lead, Body 9.97 x 4.445 mm, Pitch 2.54 mm; Supplier 1: Digi-Key; Supplier Part Number 1: NTST30100CTG-ND; Supplier 2: Newark; Supplier Part Number 2: 65T1516; Supplier 3: Mouser; Supplier Part Number 3: 863-NTST30100CTG; Packing: Tube; RoHS: TRUE; Mounting Technology: Through Hole; ComponentLink1Description: Manufacturer URL; ComponentLink1URL: http://www.onsemi.com/; ComponentLink2Description: Datasheet; ComponentLink2URL: http://www.onsemi.cn/pub_link/Collateral/NTST30100CT-D.PDF; ComponentLink3Description: Package Specification; ComponentLink3URL: http://www.onsemi.cn/pub_link/Collateral/MCR8S-D.PDF
footprint ONSC-TO-220-3-221A-09_AF (FM, 3-Leads, Body 10.3x4.85mm, Pitch 2.54mm)
pins: 1 A1, 2 K, 3 A2

## NTST30100SG
designator D?
Very Low Forward Voltage Trench-Based Schottky Rectifier, Exceptionally Low VF=0.39 V at IF=5 A, 3-Pin TO-220, Pb-Free, Tube; Manufacturer: On Semiconductor; PartNumber: NTST30100SG; Configuration: Single; IFSM Max (A): 250; DatasheetVersion: Rev. 3; PackageVersion: Rev. AF; PackageReference: TO-220-3-221A-09_AF; PackageDescription: 3-Pin Flange Mount, Vertical Straight Lead, Body 9.97 x 4.445 mm, Pitch 2.54 mm; Supplier 1: Digi-Key; Supplier Part Number 1: NTST30100SGOS-ND; Supplier 2: Farnell; Supplier Part Number 2: 2327904; Supplier 3: Newark; Supplier Part Number 3: 79R3543; Supplier 4: Mouser; Supplier Part Number 4: 863-NTST30100SG; Packing: Tube; RoHS: TRUE; Mounting Technology: Through Hole; ComponentLink1Description: Manufacturer URL; ComponentLink1URL: http://www.onsemi.com/; ComponentLink2Description: Datasheet; ComponentLink2URL: http://www.onsemi.cn/pub_link/Collateral/NTST30100S-D.PDF; ComponentLink3Description: Package Specification; ComponentLink3URL: http://www.onsemi.cn/pub_link/Collateral/MCR8S-D.PDF
footprint ONSC-TO-220-3-221A-09_AF (FM, 3-Leads, Body 10.3x4.85mm, Pitch 2.54mm)
pins: 1 A, 2 K, 3 A

## NTST40100CTG
designator D?
Very Low Forward Voltage Trench-Based Schottky Rectifier, Exceptionally Low VF=0.38 V at IF=5 A, 3-Pin TO-220, Pb-Free, Tube; Manufacturer: On Semiconductor; PartNumber: NTST40100CTG; Configuration: Dual Common Cathode; IFSM Max (A): 250; DatasheetVersion: Rev. 0; PackageVersion: Rev. AG, 09/2011; PackageReference: TO-220-3-221A-09; PackageDescription: 3-Pin Flange Mount, Vertical Straight Lead, Body 9.97 x 4.445 mm, Pitch 2.54 mm; Supplier 1: Newark; Supplier Part Number 1: 97W6396; Supplier 2: Mouser; Supplier Part Number 2: 863-NTST40100CTG; Packing: Tube; RoHS: TRUE; Mounting Technology: Through Hole; ComponentLink1Description: Manufacturer URL; ComponentLink1URL: http://www.onsemi.com/; ComponentLink2Description: Datasheet; ComponentLink2URL: http://www.onsemi.cn/pub_link/Collateral/NTST40100CT-D.PDF; ComponentLink3Description: Package Specification; ComponentLink3URL: http://www.onsemi.com/pub_link/Collateral/221A-09.PDF
footprint ONSC-TO-220-3-221A-09 (FM, 3-Leads, Body 10.3x4.85mm, Pitch 2.54mm)
pins: 1 A1, 2 K, 3 A2

## NTST40120CTG
designator D?
Very Low Forward Voltage Trench-Based Schottky Rectifier, Exceptionally Low VF=0.43 V at IF=5 A, 3-Pin TO-220, Pb-Free, Tube; Manufacturer: On Semiconductor; PartNumber: NTST40120CTG; Configuration: Common Cathode; IFSM Max (A): 250; DatasheetVersion: Rev. 4; PackageVersion: Rev. AF; PackageReference: TO-220-3-221A-09_AF; PackageDescription: 3-Pin Flange Mount, Vertical Straight Lead, Body 9.97 x 4.445 mm, Pitch 2.54 mm; Supplier 1: Digi-Key; Supplier Part Number 1: NTST40120CTGOS-ND; Supplier 2: Farnell; Supplier Part Number 2: 2114686; Supplier 3: Newark; Supplier Part Number 3: 92T2203; Supplier 4: Mouser; Supplier Part Number 4: 863-NTST40120CTG; Packing: Tube; RoHS: TRUE; Mounting Technology: Through Hole; ComponentLink1Description: Manufacturer URL; ComponentLink1URL: http://www.onsemi.com/; ComponentLink2Description: Datasheet; ComponentLink2URL: http://www.onsemi.cn/pub_link/Collateral/NTST40120CT-D.PDF; ComponentLink3Description: Package Specification; ComponentLink3URL: http://www.onsemi.cn/pub_link/Collateral/MCR8S-D.PDF
footprint ONSC-TO-220-3-221A-09_AF (FM, 3-Leads, Body 10.3x4.85mm, Pitch 2.54mm)
pins: 1 A1, 2 K, 3 A2

## NTSV20U80CTG
designator D?
Very Low Forward Voltage Trench-Based Schottky Rectifier, Exceptionally Low VF=0.485 V at IF=5 A, 3-Pin TO-220, Pb-Free, Tube; Manufacturer: On Semiconductor; PartNumber: NTSV20U80CTG; Note: 0; Configuration: Common Cathode; IFSM Max (A): 100; DatasheetVersion: Rev. 0; PackageVersion: Rev. AG, 09/2011; PackageReference: TO-220-3-221A-09; PackageDescription: 3-Pin Flange Mount, Vertical Straight Lead, Body 9.97 x 4.445 mm, Pitch 2.54 mm; Packing: Tube; RoHS: TRUE; Mounting Technology: Through Hole; ComponentLink1Description: Manufacturer URL; ComponentLink1URL: http://www.onsemi.com/; ComponentLink2Description: Datasheet; ComponentLink2URL: http://www.onsemi.cn/pub_link/Collateral/NTSV20U80CT-D.PDF; ComponentLink3Description: Package Specification; ComponentLink3URL: http://www.onsemi.com/pub_link/Collateral/221A-09.PDF
footprint ONSC-TO-220-3-221A-09 (FM, 3-Leads, Body 10.3x4.85mm, Pitch 2.54mm)
pins: 1 A1, 2 K, 3 A2

## NTSV20U100CTG
designator D?
Very Low Forward Voltage Trench-Based Schottky Rectifier, Exceptionally Low VF=0.485 V at IF=5 A, 3-Pin TO-220, Pb-Free, Tube; Manufacturer: On Semiconductor; PartNumber: NTSV20U100CTG; Configuration: Common Cathode; IFSM Max (A): 100; DatasheetVersion: Rev. 1; PackageVersion: Rev. AG, 09/2011; PackageReference: TO-220-3-221A-09; PackageDescription: 3-Pin Flange Mount, Vertical Straight Lead, Body 9.97 x 4.445 mm, Pitch 2.54 mm; Supplier 1: Digi-Key; Supplier Part Number 1: NTSV20U100CTGOS-ND; Supplier 2: Farnell; Supplier Part Number 2: 2114687; Supplier 3: Newark; Supplier Part Number 3: 92T2204; Supplier 4: Mouser; Supplier Part Number 4: 863-NTSV20U100CTG; Packing: Tube; RoHS: TRUE; Mounting Technology: Through Hole; ComponentLink1Description: Manufacturer URL; ComponentLink1URL: http://www.onsemi.com/; ComponentLink2Description: Datasheet; ComponentLink2URL: http://www.onsemi.cn/pub_link/Collateral/NTSV20U100CT-D.PDF; ComponentLink3Description: Package Specification; ComponentLink3URL: http://www.onsemi.com/pub_link/Collateral/221A-09.PDF
footprint ONSC-TO-220-3-221A-09 (FM, 3-Leads, Body 10.3x4.85mm, Pitch 2.54mm)
pins: 1 A1, 2 K, 3 A2

## NTSV2080CTG
designator D?
Very Low Forward Voltage Trench-Based Schottky Rectifier, Exceptionally Low VF=0.50 V at IF=5 A, 3-Pin TO-220, Pb-Free, Tube; Manufacturer: On Semiconductor; PartNumber: NTSV2080CTG; Note: 0; Configuration: Common Cathode; IFSM Max (A): 100; DatasheetVersion: Rev. 0; PackageVersion: Rev. AG, 09/2011; PackageReference: TO-220-3-221A-09; PackageDescription: 3-Pin Flange Mount, Vertical Straight Lead, Body 9.97 x 4.445 mm, Pitch 2.54 mm; Packing: Tube; RoHS: TRUE; Mounting Technology: Through Hole; ComponentLink1Description: Manufacturer URL; ComponentLink1URL: http://www.onsemi.com/; ComponentLink2Description: Datasheet; ComponentLink2URL: http://www.onsemi.cn/pub_link/Collateral/NTSV2080CT-D.PDF; ComponentLink3Description: Package Specification; ComponentLink3URL: http://www.onsemi.com/pub_link/Collateral/221A-09.PDF
footprint ONSC-TO-220-3-221A-09 (FM, 3-Leads, Body 10.3x4.85mm, Pitch 2.54mm)
pins: 1 A1, 2 K, 3 A2

## NTSV3080CTG
designator D?
Very Low Forward Voltage Trench-Based Schottky Rectifier, Exceptionally Low VF=0.471 V at IF=5 A, 3-Pin TO-220, Pb-Free, Tube; Manufacturer: On Semiconductor; PartNumber: NTSV3080CTG; Note: 0; Configuration: Common Cathode; IFSM Max (A): 100; DatasheetVersion: Rev. 0; PackageVersion: Rev. AG, 09/2011; PackageReference: TO-220-3-221A-09; PackageDescription: 3-Pin Flange Mount, Vertical Straight Lead, Body 9.97 x 4.445 mm, Pitch 2.54 mm; Packing: Tube; RoHS: TRUE; Mounting Technology: Through Hole; ComponentLink1Description: Manufacturer URL; ComponentLink1URL: http://www.onsemi.com/; ComponentLink2Description: Datasheet; ComponentLink2URL: http://www.onsemi.cn/pub_link/Collateral/NTSV3080CT-D.PDF; ComponentLink3Description: Package Specification; ComponentLink3URL: http://www.onsemi.com/pub_link/Collateral/221A-09.PDF
footprint ONSC-TO-220-3-221A-09 (FM, 3-Leads, Body 10.3x4.85mm, Pitch 2.54mm)
pins: 1 A1, 2 K, 3 A2

## NTSV20100CTG
designator D?
Very Low Forward Voltage Trench-Based Schottky Rectifier, Exceptionally Low VF=0.50 V at IF=5 A, 3-Pin TO-220, Pb-Free, Tube; Manufacturer: On Semiconductor; PartNumber: NTSV20100CTG; Configuration: Common Cathode; IFSM Max (A): 100; DatasheetVersion: Rev. 0; PackageVersion: Rev. AF; PackageReference: TO-220-3-221A-09_AF; PackageDescription: 3-Pin Flange Mount, Vertical Straight Lead, Body 9.97 x 4.445 mm, Pitch 2.54 mm; Supplier 1: Digi-Key; Supplier Part Number 1: NTSV20100CTGOS-ND; Supplier 2: Farnell; Supplier Part Number 2: 2114688; Supplier 3: Newark; Supplier Part Number 3: 05W5664; Supplier 4: Mouser; Supplier Part Number 4: 863-NTSV20100CTG; Packing: Tube; RoHS: TRUE; Mounting Technology: Through Hole; ComponentLink1Description: Manufacturer URL; ComponentLink1URL: http://www.onsemi.com/; ComponentLink2Description: Datasheet; ComponentLink2URL: http://www.onsemi.cn/pub_link/Collateral/NTSV20100CT-D.PDF; ComponentLink3Description: Package Specification; ComponentLink3URL: http://www.onsemi.cn/pub_link/Collateral/MCR8S-D.PDF
footprint ONSC-TO-220-3-221A-09_AF (FM, 3-Leads, Body 10.3x4.85mm, Pitch 2.54mm)
pins: 1 A1, 2 K, 3 A2

## NTSV20120CTG
designator D?
Very Low Forward Voltage Trench-Based Schottky Rectifier, Exceptionally Low VF=0.557 V at IF=5 A, 3-Pin TO-220, Pb-Free, Tube; Manufacturer: On Semiconductor; PartNumber: NTSV20120CTG; Configuration: Common Cathode; IFSM Max (A): 100; DatasheetVersion: Rev. 0; PackageVersion: Rev. AG, 09/2011; PackageReference: TO-220-3-221A-09; PackageDescription: 3-Pin Flange Mount, Vertical Straight Lead, Body 9.97 x 4.445 mm, Pitch 2.54 mm; Supplier 1: Digi-Key; Supplier Part Number 1: NTSV20120CTGOS-ND; Supplier 2: Farnell; Supplier Part Number 2: 2114699; Supplier 3: Newark; Supplier Part Number 3: 05W5665; Supplier 4: Mouser; Supplier Part Number 4: 863-NTSV20120CTG; Packing: Tube; RoHS: TRUE; Mounting Technology: Through Hole; ComponentLink1Description: Manufacturer URL; ComponentLink1URL: http://www.onsemi.com/; ComponentLink2Description: Datasheet; ComponentLink2URL: http://www.onsemi.cn/pub_link/Collateral/NTSV20120CT-D.PDF; ComponentLink3Description: Package Specification; ComponentLink3URL: http://www.onsemi.com/pub_link/Collateral/221A-09.PDF
footprint ONSC-TO-220-3-221A-09 (FM, 3-Leads, Body 10.3x4.85mm, Pitch 2.54mm)
pins: 1 A1, 2 K, 3 A2

## NTSV30100SG
designator D?
Very Low Forward Voltage Trench-Based Schottky Rectifier, Exceptionally Low VF=0.41 V at IF=5 A, 3-Pin TO-220, Pb-Free, Tube; Manufacturer: On Semiconductor; PartNumber: NTSV30100SG; Note: 0; Configuration: Single; IFSM Max (A): 100; DatasheetVersion: Rev. 0; PackageVersion: Rev. AG, 09/2011; PackageReference: TO-220-3-221A-09; PackageDescription: 3-Pin Flange Mount, Vertical Straight Lead, Body 9.97 x 4.445 mm, Pitch 2.54 mm; Packing: Tube; RoHS: TRUE; Mounting Technology: Through Hole; ComponentLink1Description: Manufacturer URL; ComponentLink1URL: http://www.onsemi.com/; ComponentLink2Description: Datasheet; ComponentLink2URL: http://www.onsemi.cn/pub_link/Collateral/NTSV30100S-D.PDF; ComponentLink3Description: Package Specification; ComponentLink3URL: http://www.onsemi.com/pub_link/Collateral/221A-09.PDF
footprint ONSC-TO-220-3-221A-09 (FM, 3-Leads, Body 10.3x4.85mm, Pitch 2.54mm)
pins: 1 A, 2 K, 3 A

## NTSV30120CTG
designator D?
Very Low Forward Voltage Trench-Based Schottky Rectifier, Exceptionally Low VF=0.522 V at IF=5 A, 3-Pin TO-220, Pb-Free, Tube; Manufacturer: On Semiconductor; PartNumber: NTSV30120CTG; Configuration: Common Cathode; IFSM Max (A): 100; DatasheetVersion: Rev. 0; PackageVersion: Rev. AG, 09/2011; PackageReference: TO-220-3-221A-09; PackageDescription: 3-Pin Flange Mount, Vertical Straight Lead, Body 9.97 x 4.445 mm, Pitch 2.54 mm; Supplier 1: Digi-Key; Supplier Part Number 1: NTSV30120CTGOS-ND; Supplier 2: Farnell; Supplier Part Number 2: 2114700; Supplier 3: Newark; Supplier Part Number 3: 06W0886; Supplier 4: Mouser; Supplier Part Number 4: 863-NTSV30120CTG; Packing: Tube; RoHS: TRUE; Mounting Technology: Through Hole; ComponentLink1Description: Manufacturer URL; ComponentLink1URL: http://www.onsemi.com/; ComponentLink2Description: Datasheet; ComponentLink2URL: http://www.onsemi.cn/pub_link/Collateral/NTSV30120CT-D.PDF; ComponentLink3Description: Package Specification; ComponentLink3URL: http://www.onsemi.com/pub_link/Collateral/221A-09.PDF
footprint ONSC-TO-220-3-221A-09 (FM, 3-Leads, Body 10.3x4.85mm, Pitch 2.54mm)
pins: 1 A1, 2 K, 3 A2